# EAGLE library part ST2042 (library ic-ST)
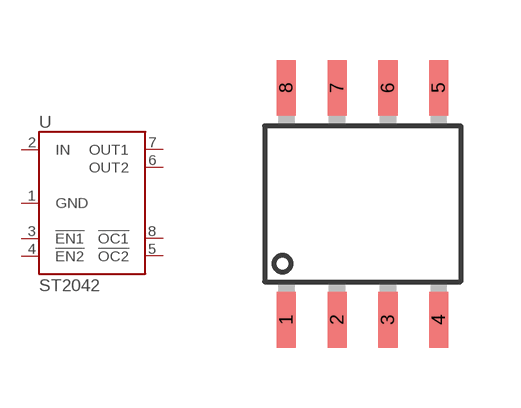
[diagram p0: symbol with the pads of SOP8; footprint SOP8]

Designator prefix U

## ST2042  [SOP8]
1  GND
2  IN
3  !EN1
4  !EN2
5  !OC2
6  OUT2
7  OUT1
8  !OC1

## Footprint SOP8 (pad centres in mm)
smd 0.48 x 1.4: 1 -1.905,-2.9; 2 -0.635,-2.9; 3 0.635,-2.9; 4 1.905,-2.9; 5 1.905,2.9; 6 0.635,2.9; 7 -0.635,2.9; 8 -1.905,2.9